# Altium schematic symbol library COIL_Relay.SchLib: 1 symbol
Pins are listed as number, name and electrical type; pins without a type are passive.

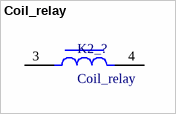
[diagram p0: symbol Coil_relay]

## Coil_relay
designator K2_?
footprint Relay_Coil
pins: 3, 4